# Altium footprint library USBADFWTH.PcbLib: 1 footprints
Each footprint in its own frame and in the unit in brackets; x right, y up, seen from the top. Pads: shape width x height; smd on the part's side, far side on the other; paste and mask are expansions set on the pad; w line width, h text height; cw(c..) or ccw(c..) is an arc to the next point about the centre after c.
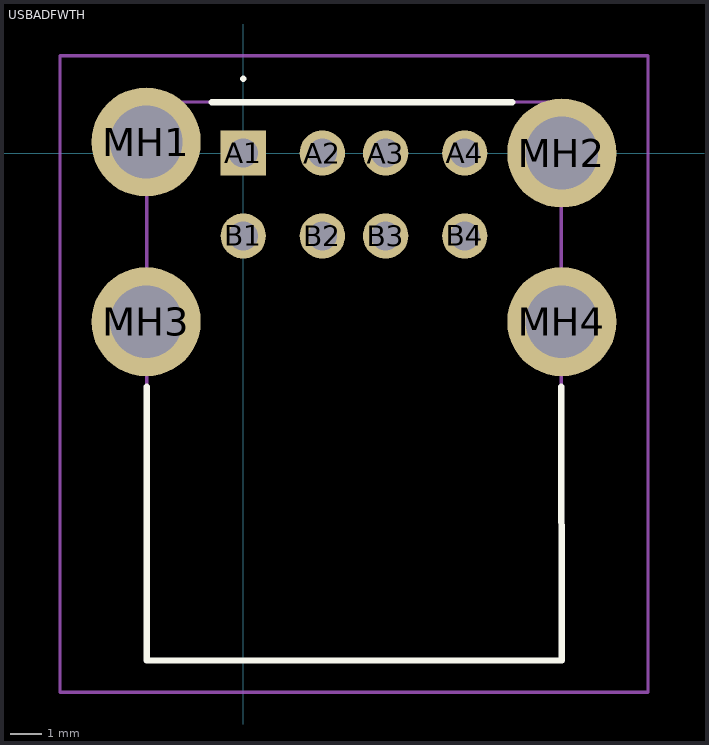
[diagram p0: the footprint, top view; thin cyan lines are the x and y axes]

## USBADFWTH [mm]
pads (12):
  rect 1.431x1.431 hole 0.92: A1(0,0)
  round 1.431 hole 0.92: A2(2.5,0) A3(4.5,0) A4(7,0) B1(0,-2.62) B2(2.5,-2.62) B3(4.5,-2.62) B4(7,-2.62)
  round 3.45 hole 2.3: MH1(-3.07,0.35) MH2(10.07,0) MH3(-3.07,-5.33) MH4(10.07,-5.33)
Top Overlay:
  lines w0.1: 0,2.3 cw(c0,2.35) 0,2.4 ; 0,2.3 0,2.3 ; 0,2.3 ccw(c0,2.35) 0,2.4 ; 0,2.4 0,2.4
  lines w0.2: -3.05,-7.39 -3.05,-16.04 10.07,-16.04 10.05,-7.39 ; -1,1.61 8.5,1.61
Mechanical 15:
  lines w0.1: -3.05,-16.04 10.05,-16.04 10.05,1.61 -3.05,1.61 -3.05,-16.04
Mechanical 20:
  lines w0.1: -5.795,-17.04 12.795,-17.04 12.795,3.075 -5.795,3.075 -5.795,-17.04